# EAGLE library part TED8360 (library commodore-plus4)
Commodore TED 8360 Display Format: 40x25 text, 320Hx200V bit-map Display Modes: 3 character modes: Standard, Multicolor, Extended 2 bit-mapo modes: HiRes, Multicolor Video Output: 121 color composite Features: 2 voice sound, 8-bit keyport control, Clk doubling, horiz. and vert. scrolling, Raster Compare and 3 timer generated interrupts, hardware cursor blink and reverse video attributes true external DMA and arbitration control Memory Interface:access 64K, transparent DMA, provides system RAS, CAS and MUX Pins: 48 Supply: +5V
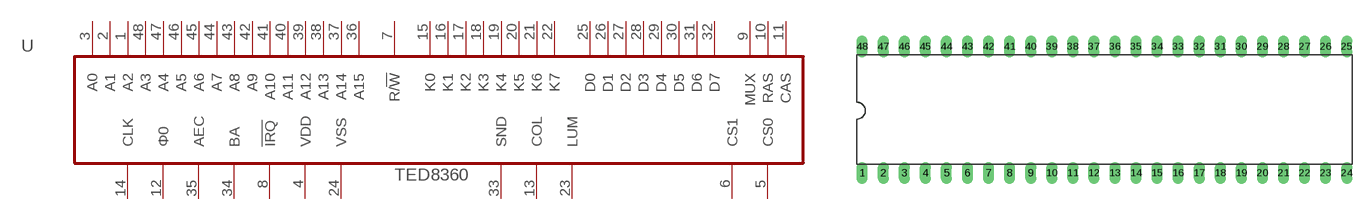
[diagram p3: symbol with the pads of DIL48; footprint DIL48]

Designator prefix -

## TED8360  [DIL48]
1  A2
2  A1
3  A0
4  VDD  pwr
5  CS0
6  CS1
7  R/!W
8  !IRQ  out
9  MUX
10  RAS
11  CAS
12  Φ0  out
13  COL
14  CLK  in
15  K0
16  K1
17  K2
18  K3
19  K4
20  K5
21  K6
22  K7
23  LUM
24  VSS  pwr
25  D0
26  D1
27  D2
28  D3
29  D4
30  D5
31  D6
32  D7
33  SND
34  BA  out
35  AEC  out
36  A15
37  A14
38  A13
39  A12
40  A11
41  A10
42  A9
43  A8
44  A7
45  A6
46  A5
47  A4
48  A3

## Footprint DIL48 (pad centres in mm)
Dual In Line Package
drill 0.813 long: 1 -29.21,-7.62; 2 -26.67,-7.62; 3 -24.13,-7.62; 4 -21.59,-7.62; 5 -19.05,-7.62; 6 -16.51,-7.62; 7 -13.97,-7.62; 8 -11.43,-7.62; 9 -8.89,-7.62; 10 -6.35,-7.62; 11 -3.81,-7.62; 12 -1.27,-7.62; 13 1.27,-7.62; 14 3.81,-7.62; 15 6.35,-7.62; 16 8.89,-7.62; 17 11.43,-7.62; 18 13.97,-7.62; 19 16.51,-7.62; 20 19.05,-7.62; 21 21.59,-7.62; 22 24.13,-7.62; 23 26.67,-7.62; 24 29.21,-7.62; 25 29.21,7.62; 26 26.67,7.62; 27 24.13,7.62; 28 21.59,7.62; 29 19.05,7.62; 30 16.51,7.62; 31 13.97,7.62; 32 11.43,7.62; 33 8.89,7.62; 34 6.35,7.62; 35 3.81,7.62; 36 1.27,7.62; 37 -1.27,7.62; 38 -3.81,7.62; 39 -6.35,7.62; 40 -8.89,7.62; 41 -11.43,7.62; 42 -13.97,7.62; 43 -16.51,7.62; 44 -19.05,7.62; 45 -21.59,7.62; 46 -24.13,7.62; 47 -26.67,7.62; 48 -29.21,7.62